# EAGLE library part TFDU4100 (library SIR-TFDU4100_TFDS4500_TFDT4500)
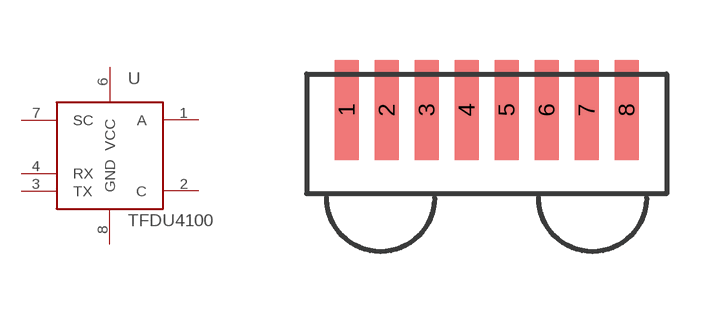
[diagram p0: symbol with the pads of U; footprint U]

Designator prefix -

## TFDU4100  [U]
1  A
2  C
3  TX  in
4  RX  out
6  VCC  pwr
7  SC  in
8  GND  sup

## Footprint U (pad centres in mm)
TFDU4100 Baby Face (Universal)
smd 0.6 x 2.5: 1 -3.5,0; 2 -2.5,0; 3 -1.5,0; 4 -0.5,0; 5 0.5,0; 6 1.5,0; 7 2.5,0; 8 3.5,0